# Altium footprint library QF.PcbLib: 196 footprints (part 1 of 13)
Each footprint in its own frame and in the unit in brackets; x right, y up, seen from the top. Pads: shape width x height; smd on the part's side, far side on the other; paste and mask are expansions set on the pad; w line width, h text height; cw(c..) or ccw(c..) is an arc to the next point about the centre after c.
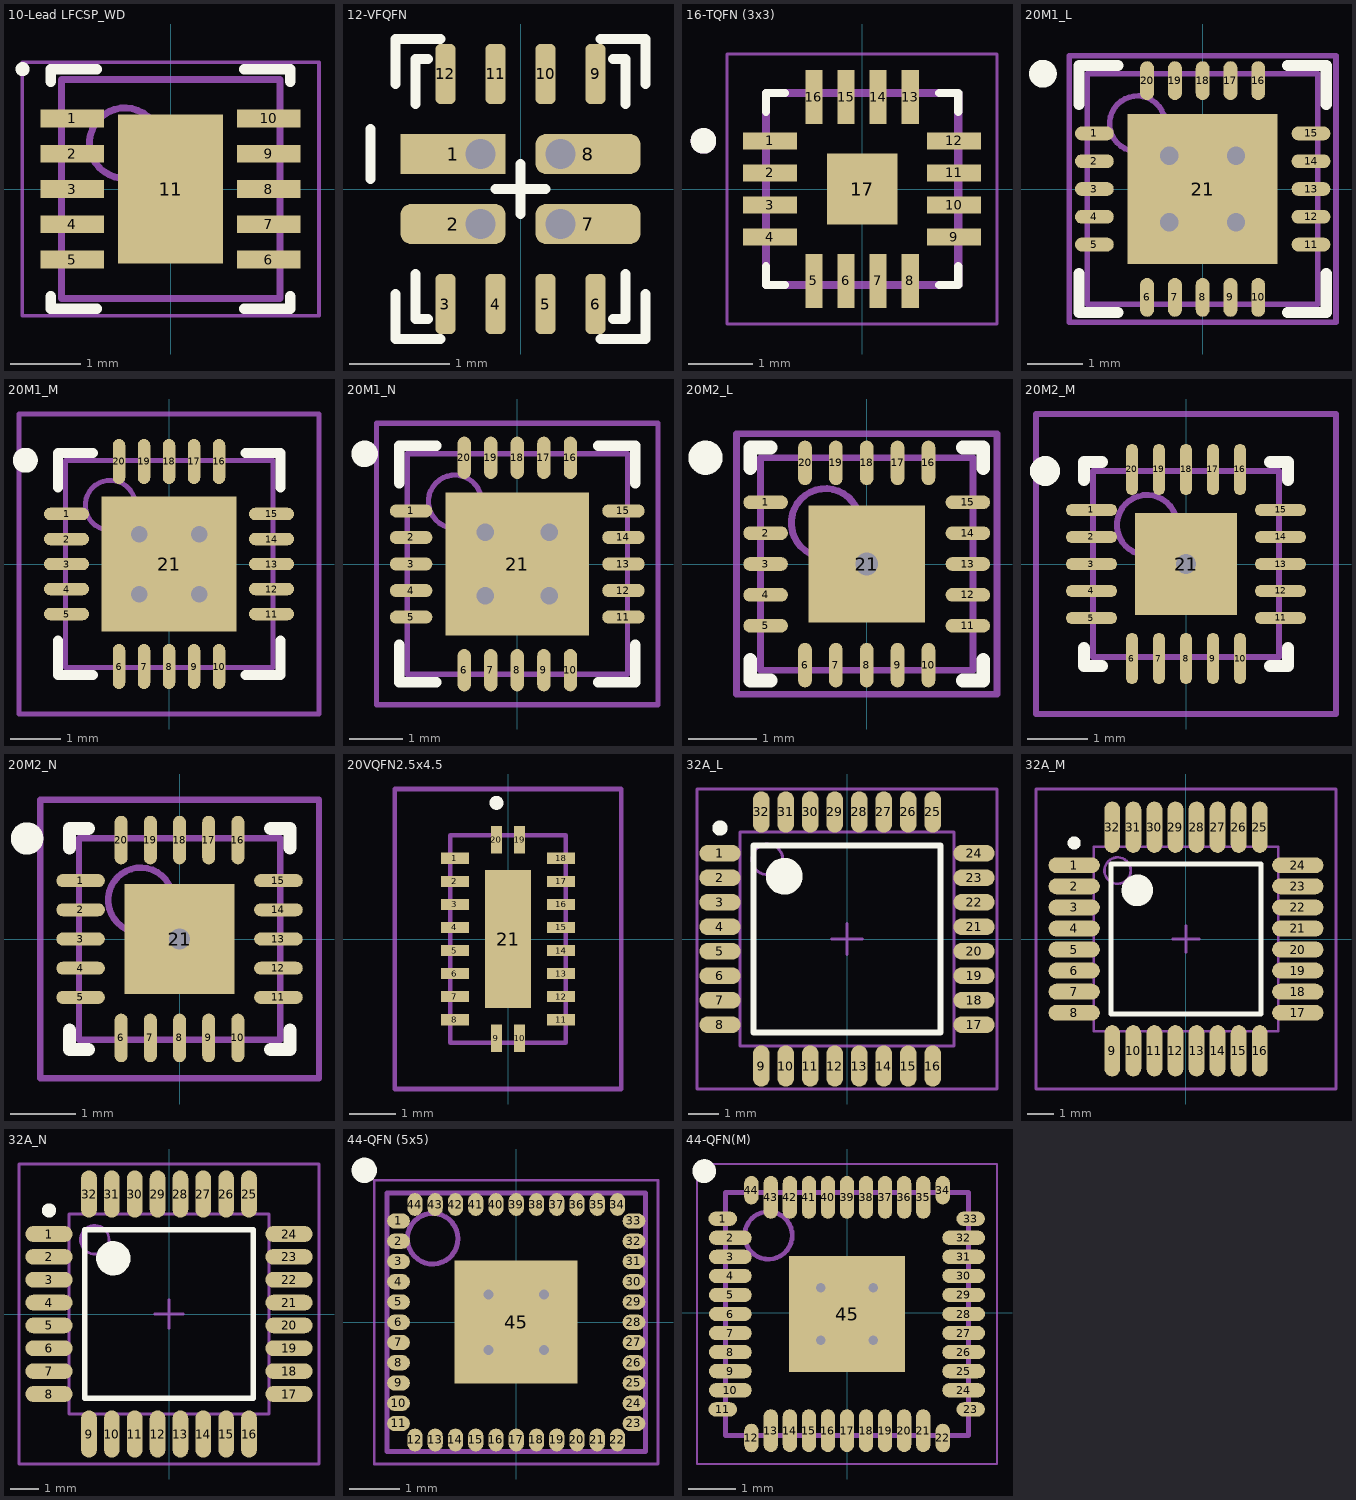
[diagram p0: the footprints below, top view; thin cyan lines are the x and y axes]

## 10-Lead LFCSP_WD [mm] "SON, 10-Leads, Body 3,00x3,00mm, Pitch 0,50mm, Thermal Pad 2,11x1,49mm, IPC Medium Density"
height 0.8
pads (11):
  rect 0.9x0.25 smd: 1(-1.395,1) 2(-1.395,0.5) 3(-1.395,0) 4(-1.395,-0.5) 5(-1.395,-1) 6(1.395,-1) 7(1.395,-0.5) 8(1.395,0) 9(1.395,0.5) 10(1.395,1)
  rect 1.49x2.11 smd: 11(0,0)
Top Overlay:
  circle w0.1: c-2.1,1.7 r0.05
  lines w0.15: -1.7,-1.525 -1.7,-1.7 -1.045,-1.7 ; -1.7,1.525 -1.7,1.7 -1.045,1.7 ; 1.045,-1.7 1.7,-1.7 1.7,-1.525 ; 1.045,1.7 1.7,1.7 1.7,1.525
Mechanical 13:
  circle w0.1: c-0.65,0.65 r0.5
  lines w0.1: -1.55,-1.55 1.55,-1.55 1.55,1.55 -1.55,1.55 -1.55,-1.55
Mechanical 15:
  lines w0.05: -2.105,-1.8 2.105,-1.8 2.105,1.8 -2.105,1.8 -2.105,-1.8
  lines w0.1: -0.5,0 0.5,0 ; 0,-0.5 0,0.5
3D body "SON50P300X80_HS-11N.step": height 0.8, standoff 0, extent -1.6,-1.55 1.6,1.55

## 12-VFQFN [mm]
height 1
pads (12):
  rect 1.05x0.4 smd: 1(-0.675,0.35)
  rrect50% 1.05x0.4 smd: 2(-0.675,-0.35) 7(0.675,-0.35) 8(0.675,0.35)
  rrect50% 0.2x0.6 smd: 3(-0.75,-1.15) 4(-0.25,-1.15) 5(0.25,-1.15) 6(0.75,-1.15) 9(0.75,1.15) 10(0.25,1.15) 11(-0.25,1.15) 12(-0.75,1.15)
via -0.4,-0.35 diameter 0.4 hole 0.3
via 0.4,-0.35 diameter 0.4 hole 0.3
via 0.4,0.35 diameter 0.4 hole 0.3
via -0.4,0.35 diameter 0.4 hole 0.3
Top Overlay:
  lines w0.1: -1.5,0.1 -1.5,0.6 ; -1.25,-1.05 -1.25,-1.5 -0.8,-1.5 ; -1.25,1.05 -1.25,1.5 -0.8,1.5 ; -1.05,-0.85 -1.05,-1.3 -0.925,-1.3 ; -1.05,0.85 -1.05,1.3 -0.925,1.3 ; -0.25,0 0.25,0 ; 0,-0.25 0,0.25 ; 0.8,-1.5 1.25,-1.5 1.25,-1.05 ; 0.8,1.5 1.25,1.5 1.25,1.05 ; 0.925,-1.3 1.05,-1.3 1.05,-0.85 ; 0.925,1.3 1.05,1.3 1.05,0.85
3D body: height 1, standoff 0, extent -1.05,-1.3 1.05,1.3

## 16-TQFN (3x3) [mm]
pads (17):
  rect 0.84x0.27 smd: 1(-1.435,0.75) 2(-1.435,0.25) 3(-1.435,-0.25) 4(-1.435,-0.75) 9(1.435,-0.75) 10(1.435,-0.25) 11(1.435,0.25) 12(1.435,0.75)
  rect 0.27x0.84 smd: 5(-0.75,-1.435) 6(-0.25,-1.435) 7(0.25,-1.435) 8(0.75,-1.435) 13(0.75,1.435) 14(0.25,1.435) 15(-0.25,1.435) 16(-0.75,1.435)
  rect 1.1x1.1 smd: 17(0,0)
Top Overlay:
  circle w0.2: c-2.475,0.75 r0.1
  lines w0.127: -1.5,-1.205 -1.5,-1.5 -1.205,-1.5 ; -1.5,1.205 -1.5,1.5 -1.205,1.5 ; 1.205,-1.5 1.5,-1.5 1.5,-1.205 ; 1.205,1.5 1.5,1.5 1.5,1.205
Top Paste:
  region: -0.35,0.35 0.35,0.35 0.35,-0.35 -0.35,-0.35
Mechanical 4:
  circle w0.2: c-2.475,0.75 r0.1
  circle w0.2: c-2.475,0.75 r0.1
  lines w0.127: -1.5,-1.5 -1.5,1.5 ; -1.5,-1.5 1.5,-1.5 ; -1.5,-1.5 -1.5,1.5 ; -1.5,-1.5 1.5,-1.5 ; -1.5,1.5 1.5,1.5 ; -1.5,1.5 1.5,1.5 ; 1.5,-1.5 1.5,1.5 ; 1.5,-1.5 1.5,1.5
Mechanical 16:
  lines w0.05: -2.105,-2.105 -2.105,2.105 2.105,2.105 2.105,-2.105 -2.105,-2.105
3D body "ALSRobot-QFN16 3x3.STEP": height 0.9, standoff 0, extent -1.549,-1.521 1.493,1.521

## 20M1_L [mm] "QFN, 20-Leads, Body 4x4mm, Pitch 0.5mm, IPC High Density"
height 0.8
pads (21):
  oval 0.7x0.25 smd: 1(-1.95,1) 2(-1.95,0.5) 3(-1.95,0) 4(-1.95,-0.5) 5(-1.95,-1) 11(1.95,-1) 12(1.95,-0.5) 13(1.95,0) 14(1.95,0.5) 15(1.95,1)
  oval 0.25x0.7 smd: 6(-1,-1.95) 7(-0.5,-1.95) 8(0,-1.95) 9(0.5,-1.95) 10(1,-1.95) 16(1,1.95) 17(0.5,1.95) 18(0,1.95) 19(-0.5,1.95) 20(-1,1.95)
  rect 2.7x2.7 smd: 21(0,0)
via 0.6,-0.6 diameter 0.66 hole 0.33
via -0.6,-0.6 diameter 0.66 hole 0.33
via 0.6,0.6 diameter 0.66 hole 0.33
via -0.6,0.6 diameter 0.66 hole 0.33
Top Overlay:
  circle w0.25: c-2.875,2.075 r0.125
  lines w0.2: -2.225,-1.525 -2.225,-2.225 -1.525,-2.225 ; -2.225,1.525 -2.225,2.225 -1.525,2.225 ; 1.525,-2.225 2.225,-2.225 2.225,-1.525 ; 1.525,2.225 2.225,2.225 2.225,1.525
Mechanical 13:
  circle w0.1: c-1.175,1.175 r0.5
  lines w0.1: -2.075,-2.075 2.075,-2.075 2.075,2.075 -2.075,2.075 -2.075,-2.075
Mechanical 15:
  lines w0.1: -0.5,0 0.5,0 ; 0,-0.5 0,0.5 ; -2.4,-2.4 2.4,-2.4 2.4,2.4 -2.4,2.4 -2.4,-2.4
3D body: height 0.8, standoff 0, extent -2.075,-2.075 2.075,2.075

## 20M1_M [mm] "QFN, 20-Leads, Body 4x4mm, Pitch 0.5mm, IPC Low Density"
height 0.8
pads (21):
  oval 0.9x0.25 smd: 1(-2.05,1) 2(-2.05,0.5) 3(-2.05,0) 4(-2.05,-0.5) 5(-2.05,-1) 11(2.05,-1) 12(2.05,-0.5) 13(2.05,0) 14(2.05,0.5) 15(2.05,1)
  oval 0.25x0.9 smd: 6(-1,-2.05) 7(-0.5,-2.05) 8(0,-2.05) 9(0.5,-2.05) 10(1,-2.05) 16(1,2.05) 17(0.5,2.05) 18(0,2.05) 19(-0.5,2.05) 20(-1,2.05)
  rect 2.7x2.7 smd: 21(0,0)
via 0.6,-0.6 diameter 0.66 hole 0.33
via -0.6,-0.6 diameter 0.66 hole 0.33
via 0.6,0.6 diameter 0.66 hole 0.33
via -0.6,0.6 diameter 0.66 hole 0.33
Top Overlay:
  circle w0.25: c-2.875,2.075 r0.125
  lines w0.2: -2.225,-1.525 -2.225,-2.225 -1.525,-2.225 ; -2.225,1.525 -2.225,2.225 -1.525,2.225 ; 1.525,-2.225 2.225,-2.225 2.225,-1.525 ; 1.525,2.225 2.225,2.225 2.225,1.525
Mechanical 13:
  circle w0.1: c-1.175,1.175 r0.5
  lines w0.1: -2.075,-2.075 2.075,-2.075 2.075,2.075 -2.075,2.075 -2.075,-2.075
Mechanical 15:
  lines w0.1: -0.5,0 0.5,0 ; 0,-0.5 0,0.5 ; -3,-3 3,-3 3,3 -3,3 -3,-3
3D body: height 0.8, standoff 0, extent -2.075,-2.075 2.075,2.075

## 20M1_N [mm] "QFN, 20-Leads, Body 4x4mm, Pitch 0.5mm, IPC Medium Density"
height 0.8
pads (21):
  oval 0.8x0.25 smd: 1(-2,1) 2(-2,0.5) 3(-2,0) 4(-2,-0.5) 5(-2,-1) 11(2,-1) 12(2,-0.5) 13(2,0) 14(2,0.5) 15(2,1)
  oval 0.25x0.8 smd: 6(-1,-2) 7(-0.5,-2) 8(0,-2) 9(0.5,-2) 10(1,-2) 16(1,2) 17(0.5,2) 18(0,2) 19(-0.5,2) 20(-1,2)
  rect 2.7x2.7 smd: 21(0,0)
via 0.6,-0.6 diameter 0.66 hole 0.33
via -0.6,-0.6 diameter 0.66 hole 0.33
via 0.6,0.6 diameter 0.66 hole 0.33
via -0.6,0.6 diameter 0.66 hole 0.33
Top Overlay:
  circle w0.25: c-2.875,2.075 r0.125
  lines w0.2: -2.225,-1.525 -2.225,-2.225 -1.525,-2.225 ; -2.225,1.525 -2.225,2.225 -1.525,2.225 ; 1.525,-2.225 2.225,-2.225 2.225,-1.525 ; 1.525,2.225 2.225,2.225 2.225,1.525
Mechanical 13:
  circle w0.1: c-1.175,1.175 r0.5
  lines w0.1: -2.075,-2.075 2.075,-2.075 2.075,2.075 -2.075,2.075 -2.075,-2.075
Mechanical 15:
  lines w0.1: -0.5,0 0.5,0 ; 0,-0.5 0,0.5 ; -2.65,-2.65 2.65,-2.65 2.65,2.65 -2.65,2.65 -2.65,-2.65
3D body: height 0.8, standoff 0, extent -2.075,-2.075 2.075,2.075

## 20M2_L [mm] "QFN, 20-Leads, Body 3x3mm, Pitch 0.45mm, IPC High Density"
height 0.85
pads (21):
  oval 0.65x0.2 smd: 1(-1.475,0.9) 2(-1.475,0.45) 3(-1.475,0) 4(-1.475,-0.45) 5(-1.475,-0.9) 11(1.475,-0.9) 12(1.475,-0.45) 13(1.475,0) 14(1.475,0.45) 15(1.475,0.9)
  oval 0.2x0.65 smd: 6(-0.9,-1.475) 7(-0.45,-1.475) 8(0,-1.475) 9(0.45,-1.475) 10(0.9,-1.475) 16(0.9,1.475) 17(0.45,1.475) 18(0,1.475) 19(-0.45,1.475) 20(-0.9,1.475)
  rect 1.7x1.7 smd: 21(0,0)
via 0,0 diameter 0.66 hole 0.33
Top Overlay:
  circle w0.25: c-2.35,1.55 r0.125
  lines w0.2: -1.7,-1.4 -1.7,-1.7 -1.4,-1.7 ; -1.7,1.4 -1.7,1.7 -1.4,1.7 ; 1.4,-1.7 1.7,-1.7 1.7,-1.4 ; 1.4,1.7 1.7,1.7 1.7,1.4
Mechanical 13:
  circle w0.1: c-0.6,0.6 r0.5
  lines w0.1: -1.55,-1.55 1.55,-1.55 1.55,1.55 -1.55,1.55 -1.55,-1.55
Mechanical 15:
  lines w0.1: -0.5,0 0.5,0 ; 0,-0.5 0,0.5 ; -1.9,-1.9 1.9,-1.9 1.9,1.9 -1.9,1.9 -1.9,-1.9
3D body: height 0.85, standoff 0, extent -1.55,-1.55 1.55,1.55

## 20M2_M [mm] "QFN, 20-Leads, Body 3x3mm, Pitch 0.45mm, IPC Low Density"
height 0.85
pads (21):
  oval 0.85x0.2 smd: 1(-1.575,0.9) 2(-1.575,0.45) 3(-1.575,0) 4(-1.575,-0.45) 5(-1.575,-0.9) 11(1.575,-0.9) 12(1.575,-0.45) 13(1.575,0) 14(1.575,0.45) 15(1.575,0.9)
  oval 0.2x0.85 smd: 6(-0.9,-1.575) 7(-0.45,-1.575) 8(0,-1.575) 9(0.45,-1.575) 10(0.9,-1.575) 16(0.9,1.575) 17(0.45,1.575) 18(0,1.575) 19(-0.45,1.575) 20(-0.9,1.575)
  rect 1.7x1.7 smd: 21(0,0)
via 0,0 diameter 0.66 hole 0.33
Top Overlay:
  circle w0.25: c-2.35,1.55 r0.125
  lines w0.2: -1.7,-1.4 -1.7,-1.7 -1.4,-1.7 ; -1.7,1.4 -1.7,1.7 -1.4,1.7 ; 1.4,-1.7 1.7,-1.7 1.7,-1.4 ; 1.4,1.7 1.7,1.7 1.7,1.4
Mechanical 13:
  circle w0.1: c-0.65,0.65 r0.5
  lines w0.1: -1.55,-1.55 -1.55,1.55 1.55,1.55 1.55,-1.55 -1.55,-1.55
Mechanical 15:
  lines w0.1: -0.5,0 0.5,0 ; 0,-0.5 0,0.5 ; -2.5,-2.5 -2.5,2.5 2.5,2.5 2.5,-2.5 -2.5,-2.5
3D body: height 0.85, standoff 0, extent -1.55,-1.55 1.55,1.55

## 20M2_N [mm] "QFN, 20-Leads, Body 3x3mm, Pitch 0.45mm, IPC Medium Density"
height 0.85
pads (21):
  oval 0.75x0.2 smd: 1(-1.525,0.9) 2(-1.525,0.45) 3(-1.525,0) 4(-1.525,-0.45) 5(-1.525,-0.9) 11(1.525,-0.9) 12(1.525,-0.45) 13(1.525,0) 14(1.525,0.45) 15(1.525,0.9)
  oval 0.2x0.75 smd: 6(-0.9,-1.525) 7(-0.45,-1.525) 8(0,-1.525) 9(0.45,-1.525) 10(0.9,-1.525) 16(0.9,1.525) 17(0.45,1.525) 18(0,1.525) 19(-0.45,1.525) 20(-0.9,1.525)
  rect 1.7x1.7 smd: 21(0,0)
via 0,0 diameter 0.66 hole 0.33
Top Overlay:
  circle w0.25: c-2.35,1.55 r0.125
  lines w0.2: -1.7,-1.4 -1.7,-1.7 -1.4,-1.7 ; -1.7,1.4 -1.7,1.7 -1.4,1.7 ; 1.4,-1.7 1.7,-1.7 1.7,-1.4 ; 1.4,1.7 1.7,1.7 1.7,1.4
Mechanical 13:
  circle w0.1: c-0.6,0.6 r0.5
  lines w0.1: -1.55,-1.55 1.55,-1.55 1.55,1.55 -1.55,1.55 -1.55,-1.55
Mechanical 15:
  lines w0.1: -0.5,0 0.5,0 ; 0,-0.5 0,0.5 ; -2.15,-2.15 2.15,-2.15 2.15,2.15 -2.15,2.15 -2.15,-2.15
3D body: height 0.85, standoff 0, extent -1.55,-1.55 1.55,1.55

## 20VQFN2.5x4.5 [mm]
pads (21):
  rect 0.6x0.24 smd: 1(-1.15,1.75) 2(-1.15,1.25) 3(-1.15,0.75) 4(-1.15,0.25) 5(-1.15,-0.25) 6(-1.15,-0.75) 7(-1.15,-1.25) 8(-1.15,-1.75) 11(1.15,-1.75) 12(1.15,-1.25) 13(1.15,-0.75) 14(1.15,-0.25) 15(1.15,0.25) 16(1.15,0.75) 17(1.15,1.25) 18(1.15,1.75)
  rect 0.24x0.6 smd: 9(-0.25,-2.15) 10(0.25,-2.15) 19(0.25,2.15) 20(-0.25,2.15)
  rect 1x3 smd: 21(0,0)
Top Overlay:
  lines w0.2: -0.25,2.9 ccw(c-0.25,2.95) -0.25,3 ; -0.25,2.9 cw(c-0.25,2.95) -0.25,3 ; -0.25,2.9 ccw(c-0.25,2.95) -0.25,3
Mechanical 13:
  lines w0.1: -1.25,-2.25 -1.25,2.25 1.25,2.25 1.25,-2.25 -1.25,-2.25
Mechanical 15:
  lines w0.1: -2.45,-3.25 -2.45,3.25 2.45,3.25 2.45,-3.25 -2.45,-3.25
3D body "SN74HCS240RKSR.stp": height 1.1, standoff 0, extent -1.25,-2.25 1.25,2.25

## 23-PowerTFQFN [mm] "QFN, 24-Leads, Body 4x4mm, Pitch 0.5mm, IPC Low Density"
height 1
pads (23):
  oval 0.85x0.3 smd: 1(3095.396,3098.721) 2(3095.396,3098.221) 3(3095.396,3097.721) 4(3095.396,3097.221) 5(3095.396,3096.721) 6(3095.396,3096.221) 12(-4849.491,-4852.816) 13(-4849.491,-4852.316) 14(-4849.491,-4851.816) 15(-4849.491,-4851.316) 16(-4849.491,-4850.816) 17(-3579.491,-3580.316)
  oval 0.3x0.85 smd: 7(3096.221,3095.396) 8(3096.721,3095.396) 9(3097.221,3095.396) 10(3098.221,3095.396) 11(3098.721,3095.396) 18(-3580.316,-3579.491) 19(-3580.816,-3579.491) 20(-3581.316,-3579.491) 21(-3581.816,-3579.491) 22(-3582.316,-3579.491) 23(-2312.816,-2309.491)
via 3096.721,3097.471 diameter 0.65 hole 0.3
via 3096.721,3098.471 diameter 0.65 hole 0.3
via 3096.721,3096.471 diameter 0.65 hole 0.3
via 3098.221,3097.471 diameter 0.65 hole 0.3
via 3098.221,3098.471 diameter 0.65 hole 0.3
via 3098.221,3096.471 diameter 0.65 hole 0.3
Top Layer:
  rectangle: 3096.016,3095.873 3097.356,3098.973
  region: 3098.926,3098.973 3097.721,3098.973 3097.721,3095.873 3098.926,3095.873
  lines w0.3: 3096.221,3095.396 3096.221,3096.221 ; 3096.721,3095.396 3096.721,3096.146 ; 3097.221,3095.396 3097.221,3095.896 ; 3098.221,3095.396 3098.221,3096.146 ; 3098.721,3095.396 3098.721,3096.146
Top Overlay:
  circle w0.25: c3094.596,3099.546 r0.125
  lines w0.2: 3095.246,3095.671 3095.246,3095.246 3095.671,3095.246 ; 3095.246,3099.271 3095.246,3099.696 3095.671,3099.696 ; 3099.271,3095.246 3099.696,3095.246 3099.696,3095.671 ; 3099.271,3099.696 3099.696,3099.696 3099.696,3099.271
Mechanical 3:
  lines w0.1: 3095.396,3098.974 3096.016,3098.973
Mechanical 13:
  circle w0.1: c3096.296,3098.646 r0.5
  lines w0.1: 3095.396,3095.396 3099.546,3095.396 3099.546,3099.546 3095.396,3099.546 3095.396,3095.396
Mechanical 15:
  lines w0.1: 3096.971,3097.471 3097.971,3097.471 ; 3097.471,3096.971 3097.471,3097.971 ; 3094.471,3094.471 3100.471,3094.471 3100.471,3100.471 3094.471,3100.471 3094.471,3094.471
3D body: height 1, standoff 0, extent -171452.325,-171450.825 -171448.175,-171446.675

## 32A_L [mm] "Thin QFP, 32-Leads, Body 7x7mm, Pitch 0.8mm, IPC High Density"
height 1.2
pads (32):
  oval 1.35x0.55 smd: 1(-4.15,2.8) 2(-4.15,2) 3(-4.15,1.2) 4(-4.15,0.4) 5(-4.15,-0.4) 6(-4.15,-1.2) 7(-4.15,-2) 8(-4.15,-2.8) 17(4.15,-2.8) 18(4.15,-2) 19(4.15,-1.2) 20(4.15,-0.4) 21(4.15,0.4) 22(4.15,1.2) 23(4.15,2) 24(4.15,2.8)
  oval 0.55x1.35 smd: 9(-2.8,-4.15) 10(-2,-4.15) 11(-1.2,-4.15) 12(-0.4,-4.15) 13(0.4,-4.15) 14(1.2,-4.15) 15(2,-4.15) 16(2.8,-4.15) 25(2.8,4.15) 26(2,4.15) 27(1.2,4.15) 28(0.4,4.15) 29(-0.4,4.15) 30(-1.2,4.15) 31(-2,4.15) 32(-2.8,4.15)
Top Overlay:
  circle w0.25: c-4.15,3.625 r0.125
  circle w0.6: c-2.05,2.05 r0.3
  lines w0.2: -3.05,-3.05 -3.05,3.05 3.05,3.05 3.05,-3.05 -3.05,-3.05
Mechanical 13:
  circle w0.1: c-2.6,2.6 r0.5
  lines w0.1: -3.5,-3.5 -3.5,3.5 3.5,3.5 3.5,-3.5 -3.5,-3.5
Mechanical 15:
  lines w0.1: -0.5,0 0.5,0 ; 0,-0.5 0,0.5 ; -4.9,-4.9 -4.9,4.9 4.9,4.9 4.9,-4.9 -4.9,-4.9
3D body: height 1.2, standoff 0, extent -3.5,-3.5 3.5,3.5

## 32A_M [mm] "Thin QFP, 32-Leads, Body 7x7mm, Pitch 0.8mm, IPC Low Density"
height 1.2
pads (32):
  oval 1.95x0.6 smd: 1(-4.25,2.8) 2(-4.25,2) 3(-4.25,1.2) 4(-4.25,0.4) 5(-4.25,-0.4) 6(-4.25,-1.2) 7(-4.25,-2) 8(-4.25,-2.8) 17(4.25,-2.8) 18(4.25,-2) 19(4.25,-1.2) 20(4.25,-0.4) 21(4.25,0.4) 22(4.25,1.2) 23(4.25,2) 24(4.25,2.8)
  oval 0.6x1.95 smd: 9(-2.8,-4.25) 10(-2,-4.25) 11(-1.2,-4.25) 12(-0.4,-4.25) 13(0.4,-4.25) 14(1.2,-4.25) 15(2,-4.25) 16(2.8,-4.25) 25(2.8,4.25) 26(2,4.25) 27(1.2,4.25) 28(0.4,4.25) 29(-0.4,4.25) 30(-1.2,4.25) 31(-2,4.25) 32(-2.8,4.25)
Top Overlay:
  circle w0.6: c-1.85,1.85 r0.3
  circle w0.25: c-4.25,3.65 r0.125
  lines w0.2: -2.85,-2.85 2.85,-2.85 2.85,2.85 -2.85,2.85 -2.85,-2.85
Mechanical 13:
  circle w0.1: c-2.6,2.6 r0.5
  lines w0.1: -3.5,-3.5 3.5,-3.5 3.5,3.5 -3.5,3.5 -3.5,-3.5
Mechanical 15:
  lines w0.1: -0.5,0 0.5,0 ; 0,-0.5 0,0.5 ; -5.7,-5.7 5.7,-5.7 5.7,5.7 -5.7,5.7 -5.7,-5.7
3D body: height 1.2, standoff 0, extent -3.5,-3.5 3.5,3.5

## 32A_N [mm] "Thin QFP, 32-Leads, Body 7x7mm, Pitch 0.8mm, IPC Medium Density"
height 1.2
pads (32):
  oval 1.65x0.55 smd: 1(-4.2,2.8) 2(-4.2,2) 3(-4.2,1.2) 4(-4.2,0.4) 5(-4.2,-0.4) 6(-4.2,-1.2) 7(-4.2,-2) 8(-4.2,-2.8) 17(4.2,-2.8) 18(4.2,-2) 19(4.2,-1.2) 20(4.2,-0.4) 21(4.2,0.4) 22(4.2,1.2) 23(4.2,2) 24(4.2,2.8)
  oval 0.55x1.65 smd: 9(-2.8,-4.2) 10(-2,-4.2) 11(-1.2,-4.2) 12(-0.4,-4.2) 13(0.4,-4.2) 14(1.2,-4.2) 15(2,-4.2) 16(2.8,-4.2) 25(2.8,4.2) 26(2,4.2) 27(1.2,4.2) 28(0.4,4.2) 29(-0.4,4.2) 30(-1.2,4.2) 31(-2,4.2) 32(-2.8,4.2)
Top Overlay:
  circle w0.25: c-4.2,3.625 r0.125
  circle w0.6: c-1.95,1.95 r0.3
  lines w0.2: -2.95,-2.95 -2.95,2.95 2.95,2.95 2.95,-2.95 -2.95,-2.95
Mechanical 13:
  circle w0.1: c-2.6,2.6 r0.5
  lines w0.1: -3.5,-3.5 -3.5,3.5 3.5,3.5 3.5,-3.5 -3.5,-3.5
Mechanical 15:
  lines w0.1: -0.5,0 0.5,0 ; 0,-0.5 0,0.5 ; -5.25,-5.25 -5.25,5.25 5.25,5.25 5.25,-5.25 -5.25,-5.25
3D body: height 1.2, standoff 0, extent -3.5,-3.5 3.5,3.5

## 44-QFN (5x5) [mm] "QFN, 44-Leads, Body 5,00x5,00mm, Pitch 0,40mm, Thermal Pad 2,43x2,43mm, IPC Medium Density"
height 0.8
pads (45):
  oval 0.45x0.3 smd: 1(-2.325,2) 2(-2.325,1.6) 3(-2.325,1.2) 4(-2.325,0.8) 5(-2.325,0.4) 6(-2.325,0) 7(-2.325,-0.4) 8(-2.325,-0.8) 9(-2.325,-1.2) 10(-2.325,-1.6) 11(-2.325,-2) 23(2.325,-2) 24(2.325,-1.6) 25(2.325,-1.2) 26(2.325,-0.8) 27(2.325,-0.4) 28(2.325,0) 29(2.325,0.4) 30(2.325,0.8) 31(2.325,1.2) 32(2.325,1.6) 33(2.325,2)
  oval 0.3x0.45 smd: 12(-2,-2.325) 13(-1.6,-2.325) 14(-1.2,-2.325) 15(-0.8,-2.325) 16(-0.4,-2.325) 17(0,-2.325) 18(0.4,-2.325) 19(0.8,-2.325) 20(1.2,-2.325) 21(1.6,-2.325) 22(2,-2.325) 34(2,2.325) 35(1.6,2.325) 36(1.2,2.325) 37(0.8,2.325) 38(0.4,2.325) 39(0,2.325) 40(-0.4,2.325) 41(-0.8,2.325) 42(-1.2,2.325) 43(-1.6,2.325) 44(-2,2.325)
  rect 2.43x2.43 smd: 45(0,0)
via 0.55,-0.55 diameter 0.5 hole 0.2
via -0.55,-0.55 diameter 0.5 hole 0.2
via 0.55,0.55 diameter 0.5 hole 0.2
via -0.55,0.55 diameter 0.5 hole 0.2
Top Overlay:
  circle w0.25: c-3,3 r0.125
Mechanical 13:
  circle w0.1: c-1.65,1.65 r0.5
  lines w0.1: -2.55,-2.55 2.55,-2.55 2.55,2.55 -2.55,2.55 -2.55,-2.55
Mechanical 15:
  lines w0.05: -2.8,-2.8 2.8,-2.8 2.8,2.8 -2.8,2.8 -2.8,-2.8
  lines w0.1: -0.5,0 0.5,0 ; 0,-0.5 0,0.5
3D body "PQFN40P500X500X80_HS-45N.step": height 0.8, standoff 0, extent -2.55,-2.55 2.55,2.55

## 44-QFN(M) [mm] "PQFN, 44-Leads, Body 5,00x5,00mm, Pitch 0,40mm, Thermal Pad 2,43x2,43mm, IPC Medium Density"
height 0.8
pads (45):
  oval 0.6x0.3 smd: 1(-2.618,1.971) 11(-2.618,-2.033) 23(2.587,-2.033) 33(2.587,1.971)
  oval 0.9x0.3 smd: 2(-2.459,1.57) 3(-2.459,1.17) 4(-2.459,0.77) 5(-2.459,0.37) 6(-2.459,-0.03) 7(-2.459,-0.43) 8(-2.459,-0.83) 9(-2.459,-1.23) 10(-2.459,-1.63) 24(2.441,-1.63) 25(2.441,-1.23) 26(2.441,-0.83) 27(2.441,-0.43) 28(2.441,-0.03) 29(2.441,0.37) 30(2.441,0.77) 31(2.441,1.17) 32(2.441,1.57)
  oval 0.3x0.6 smd: 12(-2.017,-2.633) 22(2.002,-2.633) 34(2.002,2.572) 44(-2.017,2.572)
  oval 0.3x0.9 smd: 13(-1.609,-2.48) 14(-1.209,-2.48) 15(-0.809,-2.48) 16(-0.409,-2.48) 17(-0.009,-2.48) 18(0.391,-2.48) 19(0.791,-2.48) 20(1.191,-2.48) 21(1.591,-2.48) 35(1.591,2.42) 36(1.191,2.42) 37(0.791,2.42) 38(0.391,2.42) 39(-0.009,2.42) 40(-0.409,2.42) 41(-0.809,2.42) 42(-1.209,2.42) 43(-1.609,2.42)
  rect 2.43x2.43 smd: 45(-0.009,-0.03)
via -0.559,0.52 diameter 0.5 hole 0.2
via 0.541,0.52 diameter 0.5 hole 0.2
via -0.559,-0.58 diameter 0.5 hole 0.2
via 0.541,-0.58 diameter 0.5 hole 0.2
Top Overlay:
  circle w0.25: c-3.009,2.97 r0.125
Mechanical 13:
  circle w0.1: c-1.659,1.62 r0.5
  lines w0.1: -2.559,-2.58 -2.559,2.52 2.541,2.52 2.541,-2.58 -2.559,-2.58
Mechanical 15:
  lines w0.05: -3.159,-3.18 -3.159,3.12 3.141,3.12 3.141,-3.18 -3.159,-3.18
  lines w0.1: -0.509,-0.03 0.491,-0.03 ; -0.009,-0.53 -0.009,0.47
3D body "PQFN40P500X500X80_HS-45N.step": height 0.8, standoff 0, extent -2.565,-2.581 2.535,2.519